# EAGLE library part FH23-39S (library GTA04b7)
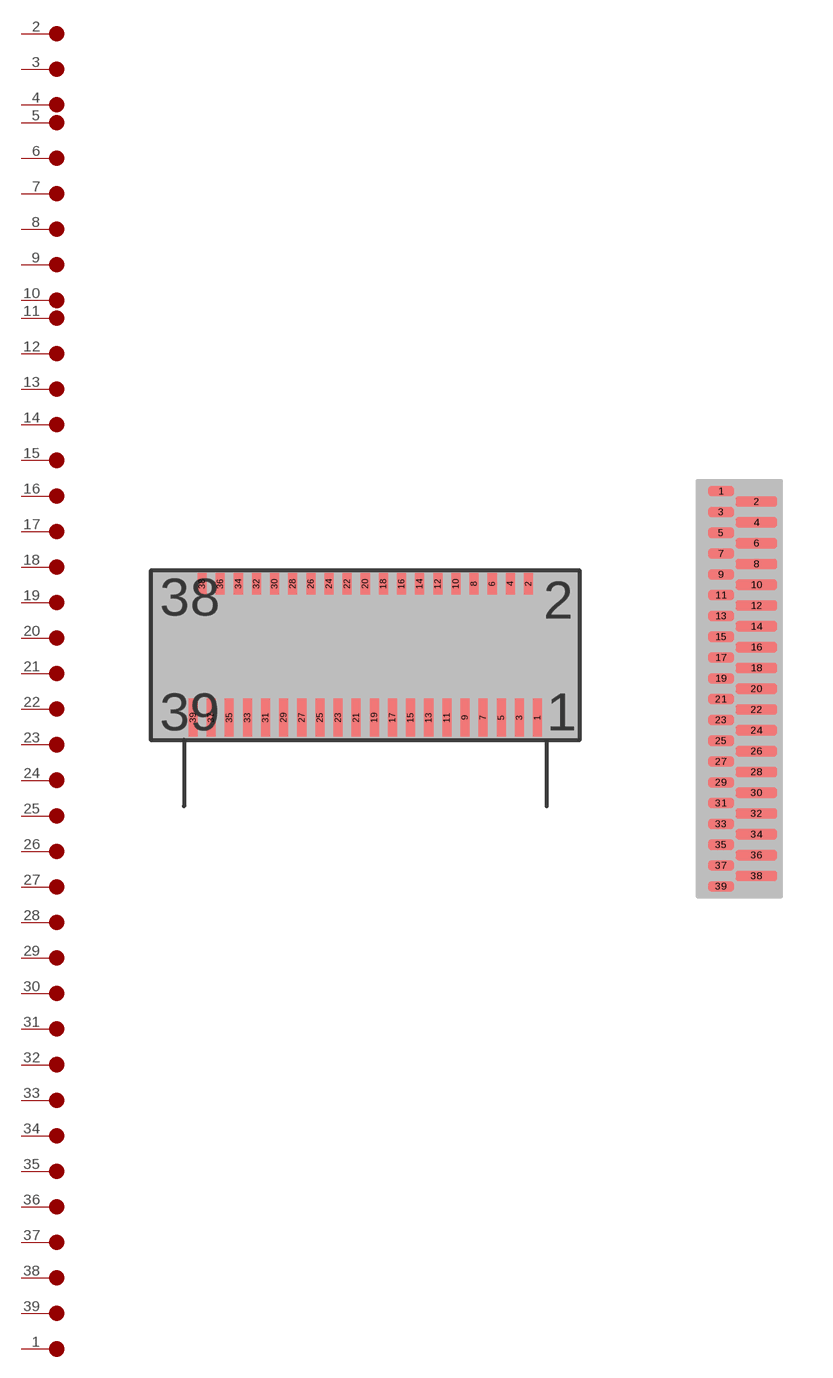
[diagram p17: symbol with the pads of FH23-39S-0.3SHW(0.5); footprints FH23-39S-0.3SHW(0.5), FFC-39-0.3]

Designator prefix -; gates G$1=PIN G$2=PIN G$3=PIN G$4=PIN G$5=PIN G$6=PIN G$7=PIN G$8=PIN G$9=PIN G$10=PIN G$11=PIN G$12=PIN G$13=PIN G$14=PIN G$15=PIN G$16=PIN G$17=PIN G$18=PIN G$19=PIN G$20=PIN G$21=PIN G$22=PIN G$23=PIN G$24=PIN G$25=PIN G$26=PIN G$27=PIN G$28=PIN G$29=PIN G$30=PIN G$31=PIN G$32=PIN G$33=PIN G$34=PIN G$35=PIN G$36=PIN G$37=PIN G$38=PIN G$39=PIN

## FH23-39S  [FH23-39S-0.3SHW(0.5)]
1  G$1:P
2  G$2:P
3  G$3:P
4  G$4:P
5  G$5:P
6  G$6:P
7  G$7:P
8  G$8:P
9  G$9:P
10  G$10:P
11  G$11:P
12  G$12:P
13  G$13:P
14  G$14:P
15  G$15:P
16  G$16:P
17  G$17:P
18  G$18:P
19  G$19:P
20  G$20:P
21  G$21:P
22  G$22:P
23  G$23:P
24  G$24:P
25  G$25:P
26  G$26:P
27  G$27:P
28  G$28:P
29  G$29:P
30  G$30:P
31  G$31:P
32  G$32:P
33  G$33:P
34  G$34:P
35  G$35:P
36  G$36:P
37  G$37:P
38  G$38:P
39  G$39:P

## FH23-39SFFC  [FFC-39-0.3]
Pads as for FH23-39S-0.3SHW(0.5)

## FH23-39SFFC-REV  [FFC-39-0.3]
1  G$39:P
2  G$38:P
3  G$37:P
4  G$36:P
5  G$35:P
6  G$34:P
7  G$33:P
8  G$32:P
9  G$31:P
10  G$30:P
11  G$29:P
12  G$28:P
13  G$27:P
14  G$26:P
15  G$25:P
16  G$24:P
17  G$23:P
18  G$22:P
19  G$21:P
20  G$20:P
21  G$19:P
22  G$18:P
23  G$17:P
24  G$16:P
25  G$15:P
26  G$14:P
27  G$13:P
28  G$12:P
29  G$11:P
30  G$10:P
31  G$9:P
32  G$8:P
33  G$7:P
34  G$6:P
35  G$5:P
36  G$4:P
37  G$3:P
38  G$2:P
39  G$1:P

## FH23-39SFH26  [FH26-39S-0.3SHW(05)]
Pads as for FH23-39S-0.3SHW(0.5)

## FH23-39SFH26REV  [FH26-39S-0.3SHW(05)]
Pads as for FFC-39-0.3

## FH23-39SREV  [FH23-39S-0.3SHW(0.5)]
Pads as for FFC-39-0.3

## Footprint FH23-39S-0.3SHW(0.5) (pad centres in mm)
Hirose FH23-39S-0.3SHW(0.5) package
smd 0.3 x 1.25: 1 5.7,-2.063; 3 5.1,-2.063; 5 4.5,-2.063; 7 3.9,-2.063; 9 3.3,-2.063; 11 2.7,-2.063; 13 2.1,-2.063; 15 1.5,-2.063; 17 0.9,-2.063; 19 0.3,-2.063; 21 -0.3,-2.063; 23 -0.9,-2.063; 25 -1.5,-2.063; 27 -2.1,-2.063; 29 -2.7,-2.063; 31 -3.3,-2.063; 33 -3.9,-2.063; 35 -4.5,-2.063; 37 -5.1,-2.063; 39 -5.7,-2.063
smd 0.3 x 0.7: 2 5.4,2.362; 4 4.8,2.362; 6 4.2,2.362; 8 3.6,2.362; 10 3,2.362; 12 2.4,2.362; 14 1.8,2.362; 16 1.2,2.362; 18 0.6,2.362; 20 0,2.362; 22 -0.6,2.362; 24 -1.2,2.362; 26 -1.8,2.362; 28 -2.4,2.362; 30 -3,2.362; 32 -3.6,2.362; 34 -4.2,2.362; 36 -4.8,2.362; 38 -5.4,2.362

## Footprint FFC-39-0.3 (pad centres in mm)
FFC connecor end 39 pins for 0.3mm pitch
smd 0.75 x 0.3: 1 0.675,5.7; 3 0.675,5.1; 5 0.675,4.5; 7 0.675,3.9; 9 0.675,3.3; 11 0.675,2.7; 13 0.675,2.1; 15 0.675,1.5; 17 0.675,0.9; 19 0.675,0.3; 21 0.675,-0.3; 23 0.675,-0.9; 25 0.675,-1.5; 27 0.675,-2.1; 29 0.675,-2.7; 31 0.675,-3.3; 33 0.675,-3.9; 35 0.675,-4.5; 37 0.675,-5.1; 39 0.675,-5.7
smd 1.2 x 0.3: 2 1.7,5.4; 4 1.7,4.8; 6 1.7,4.2; 8 1.7,3.6; 10 1.7,3; 12 1.7,2.4; 14 1.7,1.8; 16 1.7,1.2; 18 1.7,0.6; 20 1.7,0; 22 1.7,-0.6; 24 1.7,-1.2; 26 1.7,-1.8; 28 1.7,-2.4; 30 1.7,-3; 32 1.7,-3.6; 34 1.7,-4.2; 36 1.7,-4.8; 38 1.7,-5.4

## Footprint FH26-39S-0.3SHW(05) (pad centres in mm)
smd 0.3 x 0.8: 1 5.7,-1.4; 3 5.1,-1.4; 5 4.5,-1.4; 7 3.9,-1.4; 9 3.3,-1.4; 11 2.7,-1.4; 13 2.1,-1.4; 15 1.5,-1.4; 17 0.9,-1.4; 19 0.3,-1.4; 21 -0.3,-1.4; 23 -0.9,-1.4; 25 -1.5,-1.4; 27 -2.1,-1.4; 29 -2.7,-1.4; 31 -3.3,-1.4; 33 -3.9,-1.4; 35 -4.5,-1.4; 37 -5.1,-1.4; 39 -5.7,-1.4
smd 0.3 x 0.65: 2 5.4,1.475; 4 4.8,1.475; 6 4.2,1.475; 8 3.6,1.475; 10 3,1.475; 12 2.4,1.475; 14 1.8,1.475; 16 1.2,1.475; 18 0.6,1.475; 20 0,1.475; 22 -0.6,1.475; 24 -1.2,1.475; 26 -1.8,1.475; 28 -2.4,1.475; 30 -3,1.475; 32 -3.6,1.475; 34 -4.2,1.475; 36 -4.8,1.475; 38 -5.4,1.475
smd 0.4 x 0.95: M1 -6.5,-1.125; M2 6.5,-1.125